# EAGLE library part AM26C31IDBR (library Line_Drivers)
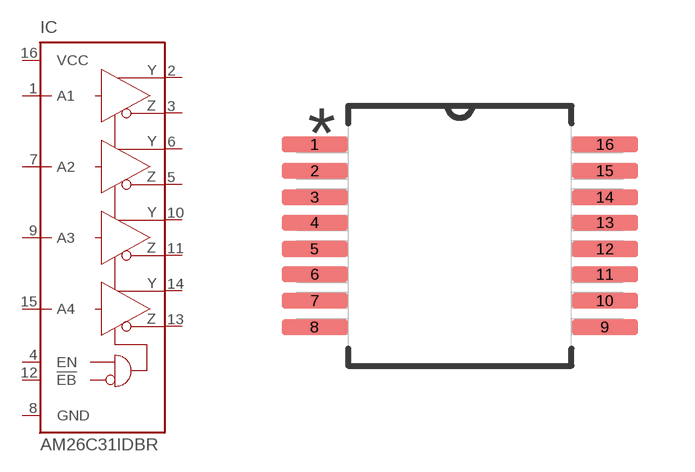
[diagram p3: symbol with the pads of SSOP-16; footprint SSOP-16]

Designator prefix IC

## AM26C31IDBR  [SSOP-16]
1  A1  in
2  Y1  out
3  Z1  out
4  EN  in
5  Z2  out
6  Y2  out
7  A2  in
8  GND  pwr
9  A3  in
10  Y3  out
11  Z3  out
12  !EB  in
13  Z4  out
14  Y4  out
15  A4  in
16  VCC  pwr

## Footprint SSOP-16 (pad centres in mm)
smd 1.651 x 0.4: 1 -3.632,2.286; 2 -3.632,1.626; 3 -3.632,0.965; 4 -3.632,0.33; 5 -3.632,-0.33; 6 -3.632,-0.965; 7 -3.632,-1.626; 8 -3.632,-2.286; 9 3.632,-2.286; 10 3.632,-1.626; 11 3.632,-0.965; 12 3.632,-0.33; 13 3.632,0.33; 14 3.632,0.965; 15 3.632,1.626; 16 3.632,2.286